# Altium footprint library SOIC-16.PcbLib: 1 footprints
Each footprint in its own frame and in the unit in brackets; x right, y up, seen from the top. Pads: shape width x height; smd on the part's side, far side on the other; paste and mask are expansions set on the pad; w line width, h text height; cw(c..) or ccw(c..) is an arc to the next point about the centre after c.
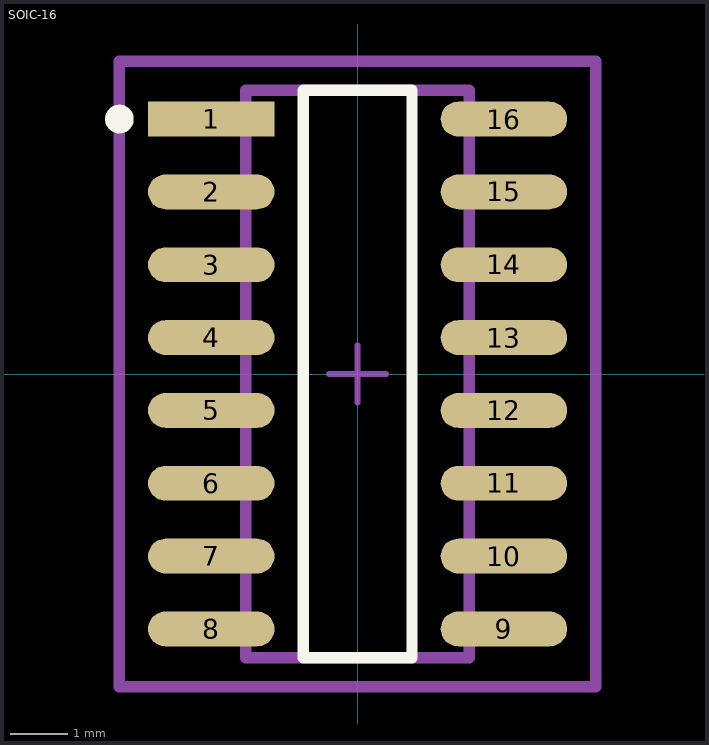
[diagram p0: the footprint, top view; thin cyan lines are the x and y axes]

## SOIC-16 [mil] "SOT109-1"
pads (16):
  rect 86.79x23.94 smd: 1(-100.43,175)
  rrect100% 86.79x23.94 smd: 2(-100.43,125) 3(-100.43,75) 4(-100.43,25) 5(-100.43,-25) 6(-100.43,-75) 7(-100.43,-125) 8(-100.43,-175) 9(100.43,-175) 10(100.43,-125) 11(100.43,-75) 12(100.43,-25) 13(100.43,25) 14(100.43,75) 15(100.43,125) 16(100.43,175)
Top Overlay:
  circle w9.84: c-163.51,175 r4.92
  lines w7.87: -37.35,-194.88 -37.35,194.88 37.35,194.88 37.35,-194.88 -37.35,-194.88
Mechanical 1:
  lines w7.87: -76.77,-194.88 -76.77,194.88 76.77,194.88 76.77,-194.88 -76.77,-194.88
Top Assembly:
  lines w7.87: -163.51,-214.57 -163.51,214.57 163.51,214.57 163.51,-214.57 -163.51,-214.57
  text ".Designator" at 0,7.39 h39.37
Top Courtyard:
  lines w7.87: -163.51,-214.57 -163.51,214.57 163.51,214.57 163.51,-214.57 -163.51,-214.57
Top Component Center:
  lines w3.94: -19.68,0 19.68,0 ; 0,-19.68 0,19.68
3D body "IC_Nexperia_74HC4050D_653_eec.STEP": height 10, standoff 0, extent -163.51,-214.57 163.51,214.57